# Altium footprint library extBoardLib.PcbLib: 7 footprints
Each footprint in its own frame and in the unit in brackets; x right, y up, seen from the top. Pads: shape width x height; smd on the part's side, far side on the other; paste and mask are expansions set on the pad; w line width, h text height; cw(c..) or ccw(c..) is an arc to the next point about the centre after c.
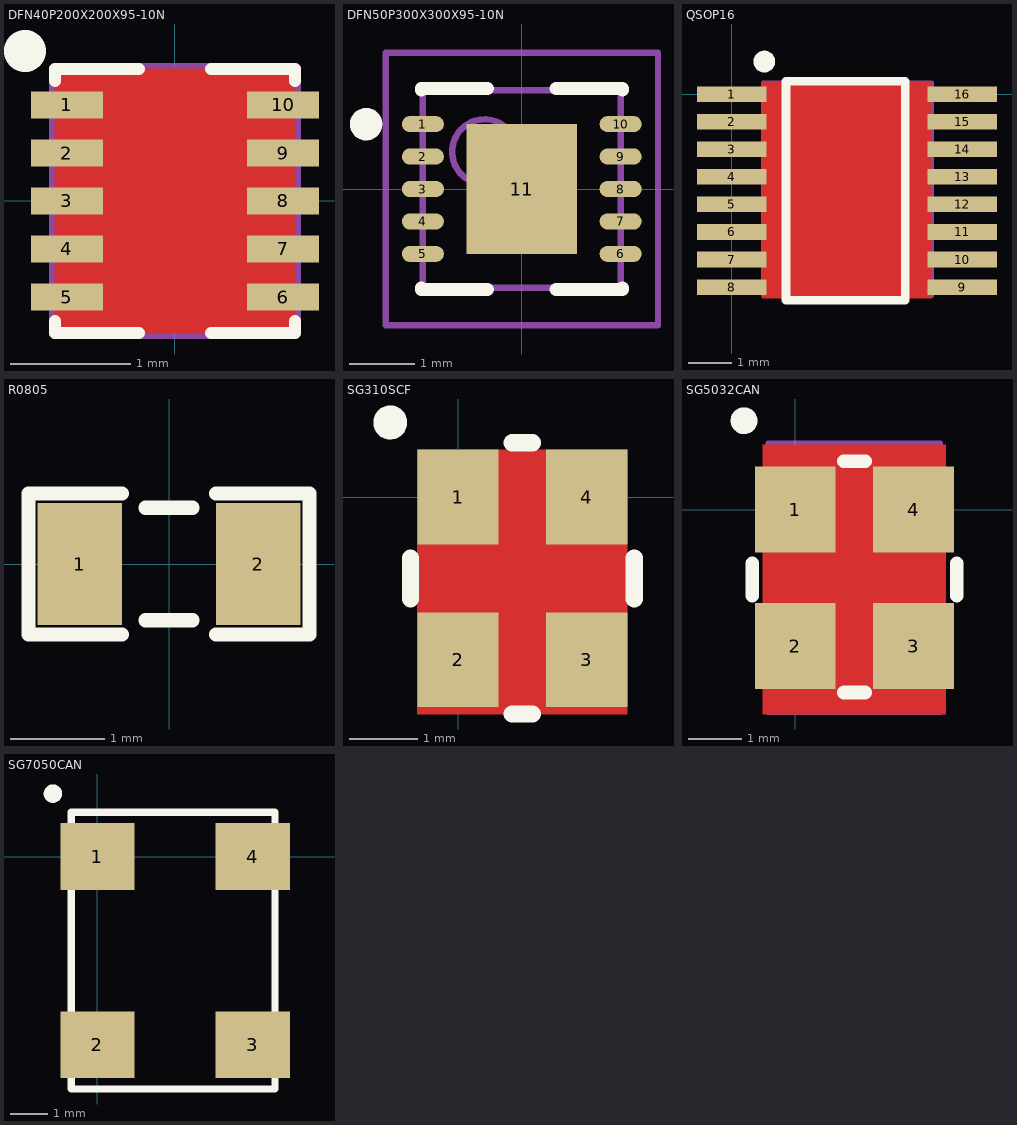
[diagram p0: the footprints below, top view; thin cyan lines are the x and y axes]

## DFN40P200X200X95-10N [mm] "DFN, 10-Leads, Body 2.0x2.0mm (max), Pitch 0.40mm, IPC Medium Density"
height 0.95
pads (10):
  rect 0.6x0.225 smd: 1(-0.9,0.8) 2(-0.9,0.4) 3(-0.9,0) 4(-0.9,-0.4) 5(-0.9,-0.8) 6(0.9,-0.8) 7(0.9,-0.4) 8(0.9,0) 9(0.9,0.4) 10(0.9,0.8)
Top Layer:
  pour cut-out: -1,1.1 1,1.1 1,-1.1 -1,-1.1
Top Overlay:
  circle w0.25: c-1.25,1.25 r0.05
  lines w0.1: -1,-1 -1,-1.1 -0.3,-1.1 ; -1,1 -1,1.1 -0.5,1.1 -0.4,1.1 -0.3,1.1 ; 0.3,-1.1 1,-1.1 1,-1 ; 0.3,1.1 1,1.1 1,1
Mechanical 13:
  lines w0.1: -1,-1.1 1,-1.1 1,1.1 -1,1.1 -1,-1.1

## DFN50P300X300X95-10N [mm] "DFN, 10-Leads, Body 3.0x3.0mm (max), Pitch 0.50mm, IPC Medium Density"
height 0.95
pads (11):
  oval 0.65x0.25 smd: 1(-1.525,1) 2(-1.525,0.5) 3(-1.525,0) 4(-1.525,-0.5) 5(-1.525,-1) 6(1.525,-1) 7(1.525,-0.5) 8(1.525,0) 9(1.525,0.5) 10(1.525,1)
  rect 1.7x2 smd: 11(0,0)
Top Overlay:
  circle w0.25: c-2.4,1 r0.125
  lines w0.2: -1.55,-1.525 -1.55,-1.55 -0.525,-1.55 ; -1.55,1.525 -1.55,1.55 -0.525,1.55 ; 0.525,-1.55 1.55,-1.55 1.55,-1.525 ; 0.525,1.55 1.55,1.55 1.55,1.525
Mechanical 13:
  circle w0.1: c-0.575,0.575 r0.5
  lines w0.1: -1.525,-1.525 -1.525,1.525 1.525,1.525 1.525,-1.525 -1.525,-1.525
Mechanical 15:
  lines w0.1: -0.5,0 0.5,0 ; 0,-0.5 0,0.5 ; -2.1,-2.1 -2.1,2.1 2.1,2.1 2.1,-2.1 -2.1,-2.1
3D body "User Library-DFN-10.STEP": height 0.8, standoff 0, extent -1.5,-1.5 1.5,1.5

## QSOP16 [mm]
pads (16):
  rect 1.6x0.36 smd: 1(0,0) 2(0,-0.635) 3(0,-1.27) 4(0,-1.905) 5(0,-2.54) 6(0,-3.175) 7(0,-3.81) 8(0,-4.445) 9(5.31,-4.445) 10(5.31,-3.81) 11(5.31,-3.175) 12(5.31,-2.54) 13(5.31,-1.905) 14(5.31,-1.27) 15(5.31,-0.635) 16(5.31,0)
Top Layer:
  pour cut-out: 0.7,0.3 4.6,0.3 4.6,-4.7 0.7,-4.7
Top Overlay:
  circle w0.25: c0.75,0.75 r0.125
  lines w0.2: 1.25,-4.75 4,-4.75 4,0.3 1.25,0.3 1.25,-4.75
Mechanical 13:
  lines w0.1: 0.72,-4.64 4.61,-4.64 4.61,0.26 0.72,0.26 0.72,-4.64

## R0805 [mm]
pads (2):
  rect 0.9x1.3 smd: 1(-0.95,0) 2(0.95,0)
Top Overlay:
  lines w0.15: -0.5,-0.75 -1.5,-0.75 -1.5,0.75 -0.5,0.75 ; -0.25,-0.6 0.25,-0.6 ; -0.25,0.6 0.25,0.6 ; 0.5,-0.75 1.5,-0.75 1.5,0.75 0.5,0.75

## SG310SCF [mm]
pads (4):
  rect 1.2x1.4 smd: 1(0,0) 2(0,-2.4) 3(1.9,-2.4) 4(1.9,0)
Top Layer:
  pour cut-out: -0.6,0.7 2.5,0.7 2.5,-3.2 -0.6,-3.2
Top Overlay:
  circle w0.25: c-1,1.1 r0.125
  lines w0.254: -0.7,-1.5 -0.7,-0.9 ; 0.8,-3.2 1.1,-3.2 ; 0.8,0.8 1.1,0.8 ; 2.6,-1.5 2.6,-0.9
Mechanical 13:
  lines w0.1: -0.3,-2.8 -0.3,0.4 2.2,0.4 2.2,-2.8 -0.3,-2.8

## SG5032CAN [mm]
pads (4):
  rect 1.5x1.6 smd: 1(0,0) 2(0,-2.54) 3(2.2,-2.54) 4(2.2,0)
Top Layer:
  pour cut-out: -0.6,1.2 2.8,1.2 2.8,-3.8 -0.6,-3.8
Top Overlay:
  circle w0.25: c-0.95,1.65 r0.125
  lines w0.254: -0.8,-1.6 -0.8,-1 ; 0.9,-3.4 1.3,-3.4 ; 0.9,0.9 1.3,0.9 ; 3,-1.6 3,-1
Mechanical 13:
  lines w0.1: -0.5,-3.77 -0.5,1.23 2.7,1.23 2.7,-3.77 -0.5,-3.77

## SG7050CAN [mm]
pads (4):
  rect 2x1.8 smd: 1(0,0) 2(0,-5.08) 3(4.2,-5.08) 4(4.2,0)
Top Overlay:
  circle w0.25: c-1.2,1.7 r0.125
  lines w0.2: 4.775,-6.28 -0.7,-6.28 -0.7,1.2 4.8,1.2 4.8,-6.28